# Altium footprint library AUVic_Schematic_Library_Oscillators.PcbLib: 5 footprints
Each footprint in its own frame and in the unit in brackets; x right, y up, seen from the top. Pads: shape width x height; smd on the part's side, far side on the other; paste and mask are expansions set on the pad; w line width, h text height; cw(c..) or ccw(c..) is an arc to the next point about the centre after c.
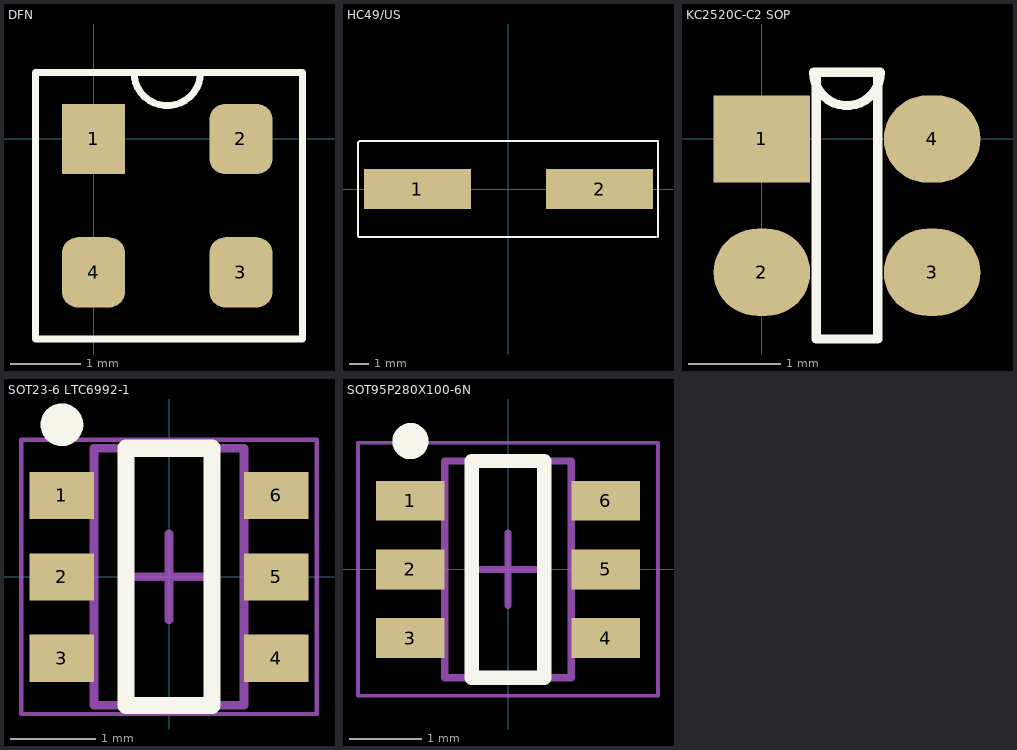
[diagram p0: the footprints below, top view; thin cyan lines are the x and y axes]

## DFN [mm]
pads (4):
  rect 0.9x1 smd: 1(0,0)
  rrect50% 0.9x1 smd: 2(2.1,0) 3(2.1,-1.9) 4(0,-1.9)
Top Overlay:
  lines w0.1: -0.825,-2.85 -0.825,0.95 1.525,0.95 cw(c1.05,0.95) 0.575,0.95 2.975,0.95 2.975,-2.85 -0.825,-2.85

## HC49/US [mm]
pads (2):
  rect 5.6x2.1 smd: 1(-4.75,0) 2(4.75,0)
Top Overlay:
  lines w0.1: -7.85,-2.45 -7.85,0.05 -7.85,2.425 -7.775,2.5 7.8,2.5 7.8,1.25 7.8,-1.25 7.8,-2.5 ; -7.825,-2.5 7.7,-2.5
3D body "User Library-HC49US.STEP": height 4.2, standoff 0, extent -6.3,-2.4 6.4,2.3

## KC2520C-C2 SOP [mm]
pads (4):
  rect 1.05x0.95 smd: 1(0,0)
  oval 1.05x0.95 smd: 2(0,-1.45) 3(1.85,-1.45) 4(1.85,0)
Top Overlay:
  lines w0.1: 0.563,0.725 ccw(c0.925,0.725) 1.287,0.725 0.59,0.725 0.59,-2.175 1.26,-2.175 1.26,0.725 0.563,0.725

## SOT23-6 LTC6992-1 [mm] "SOT23, 6-Leads, Body 2.90x2.80mm, Pitch 0.95mm, IPC High Density"
height 1
pads (6):
  rect 0.75x0.55 smd: 1(-1.25,0.95) 2(-1.25,0) 3(-1.25,-0.95) 4(1.25,-0.95) 5(1.25,0) 6(1.25,0.95)
Top Overlay:
  circle w0.25: c-1.25,1.775 r0.125
  lines w0.2: -0.5,-1.5 -0.5,1.5 0.5,1.5 0.5,-1.5 -0.5,-1.5
Mechanical 13:
  lines w0.1: -0.875,-1.5 0.875,-1.5 0.875,1.5 -0.875,1.5 -0.875,-1.5
Mechanical 15:
  lines w0.05: -1.725,-1.6 1.725,-1.6 1.725,1.6 -1.725,1.6 -1.725,-1.6
  lines w0.1: -0.5,0 0.5,0 ; 0,-0.5 0,0.5
3D body "SOT95P280X100-6L.step": height 1, standoff 0, extent -1.4,-1.5 1.4,1.5

## SOT95P280X100-6N [mm] "SOT23, 6-Leads, Body 2.90x2.80mm, Pitch 0.95mm, IPC Medium Density"
height 1
pads (6):
  rect 0.95x0.55 smd: 1(-1.35,0.95) 2(-1.35,0) 3(-1.35,-0.95) 4(1.35,-0.95) 5(1.35,0) 6(1.35,0.95)
Top Overlay:
  circle w0.25: c-1.35,1.775 r0.125
  lines w0.2: -0.5,-1.5 -0.5,1.5 0.5,1.5 0.5,-1.5 -0.5,-1.5
Mechanical 13:
  lines w0.1: -0.875,-1.5 0.875,-1.5 0.875,1.5 -0.875,1.5 -0.875,-1.5
Mechanical 15:
  lines w0.05: -2.075,-1.75 2.075,-1.75 2.075,1.75 -2.075,1.75 -2.075,-1.75
  lines w0.1: -0.5,0 0.5,0 ; 0,-0.5 0,0.5
3D body "SOT95P280X100-6N.step": height 1, standoff 0, extent -1.4,-1.5 1.4,1.5